# EAGLE library part ICSP_HDR (library pecs)
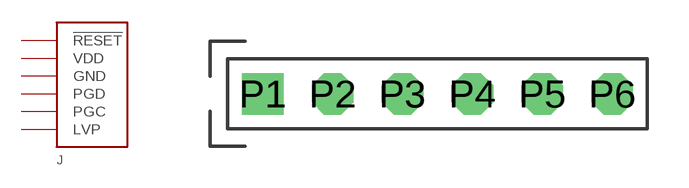
[diagram p5: symbol with the pads of H.1-6; footprint H.1-6]

Designator prefix J

## ICSP_HDR  [H.1-6]
P1  !RESET!
P2  VDD
P3  GND
P4  PGD
P5  PGC
P6  LVP

## Footprint H.1-6 (pad centres in mm)
drill 1 square: P1 -7.62,-1.27
drill 1 octagon: P2 -5.08,-1.27; P3 -2.54,-1.27; P4 0,-1.27; P5 2.54,-1.27; P6 5.08,-1.27